# EAGLE library part INA333AIDGKT (library INA333AIDGKT)
Check availability <https://pricing.snapeda.com/parts/INA333AIDGKT/Texas%20Instruments/view-part?ref=eda>
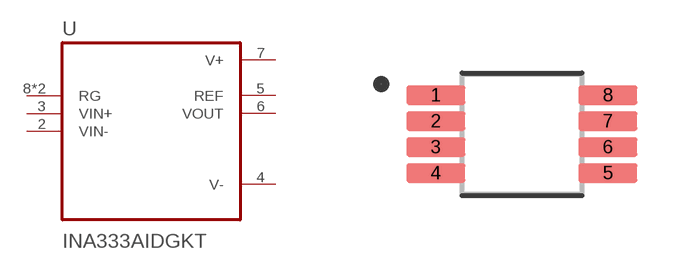
[diagram p0: symbol with the pads of SOP65P490X110-8N; footprint SOP65P490X110-8N]

Designator prefix U

## INA333AIDGKT (Availability: In Stock; Check_prices: https://www.snapeda.com/parts/INA333AIDGKT/Texas+Instruments/view-part/?ref=eda; Description: Low-Power, Zero-Drift, Precision Instrumentation Amplifier; MF: Texas Instruments; MP: INA333AIDGKT; Package: VSSOP-8 Texas Instruments; Price: None; SnapEDA_Link: https://www.snapeda.com/parts/INA333AIDGKT/Texas+Instruments/view-part/?ref=snap)  [SOP65P490X110-8N]
1  RG  in
2  VIN-  in
3  VIN+  in
4  V-  pwr
5  REF  out
6  VOUT  out
7  V+  pwr
8  RG  in

## Footprint SOP65P490X110-8N (pad centres in mm)
smd 1.47 x 0.48: 1 -2.15,0.975; 2 -2.15,0.325; 3 -2.15,-0.325; 4 -2.15,-0.975; 5 2.15,-0.975; 6 2.15,-0.325; 7 2.15,0.325; 8 2.15,0.975